# Altium footprint library PCB - BUTTONS - C&K ELUMOASAQ2C12.PCBLIB: 1 footprints
Each footprint in its own frame and in the unit in brackets; x right, y up, seen from the top. Pads: shape width x height; smd on the part's side, far side on the other; paste and mask are expansions set on the pad; w line width, h text height; cw(c..) or ccw(c..) is an arc to the next point about the centre after c.
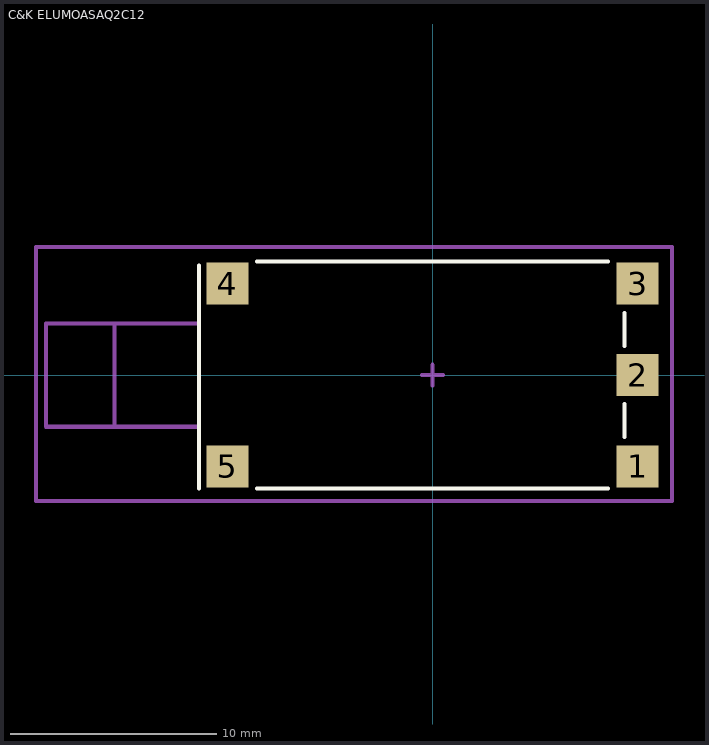
[diagram p0: the footprint, top view; thin cyan lines are the x and y axes]

## C&K ELUMOASAQ2C12 [mm]
height 6.01
pads (5):
  rect 2.03x2.03 smd: 1(9.93,-4.42) 2(9.93,0) 3(9.93,4.42) 4(-9.93,4.42) 5(-9.93,-4.42)
Top Overlay:
  lines w0.2: -11.3,-5.5 -11.3,5.3 ; -8.5,-5.5 8.5,-5.5 ; -8.5,5.5 8.5,5.5 ; 9.3,-3 9.3,-1.4 ; 9.3,1.4 9.3,3
Mechanical 1:
  lines w0.2: -15.4,-2.5 -15.4,2.5 ; -11.3,-2.5 -18.7,-2.5 -18.7,2.5 -11.3,2.5
Mechanical 15:
  lines w0.2: -19.2,-6.1 11.6,-6.1 11.6,6.2 -19.2,6.2 -19.2,-6.1
Mechanical 2 (Mech9):
  lines w0.2: -0.5,0 0.5,0 ; 0,-0.5 0,0.5
3D body "ELUMOASAQ2C12.STEP": height 5.59, standoff 0.25, extent -18.709,-5.715 10.415,5.715